# Altium footprint library ILI9341.PcbLib: 1 footprints
Each footprint in its own frame and in the unit in brackets; x right, y up, seen from the top. Pads: shape width x height; smd on the part's side, far side on the other; paste and mask are expansions set on the pad; w line width, h text height; cw(c..) or ccw(c..) is an arc to the next point about the centre after c.
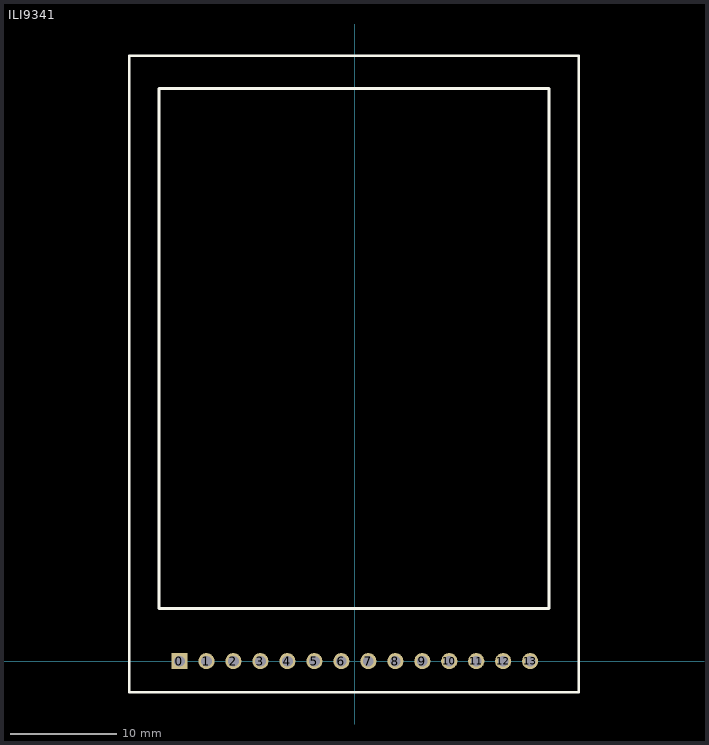
[diagram p0: the footprint, top view; thin cyan lines are the x and y axes]

## ILI9341 [mil]
pads (14):
  rect 60x60 hole 40: 0(-650,0)
  round 60 hole 40: 1(-550,0) 2(-450,0) 3(-350,0) 4(-250,0) 5(-150,0) 6(-50,0) 7(50,0) 8(150,0) 9(250,0) 10(350,0) 11(450,0) 12(550,0) 13(650,0)
Top Overlay:
  lines w10: -836.14,-115 830,-115 830,2243.66 -836.14,2243.66 -836.14,-115 ; -725.67,195 720,195 720,2122.56 -725.67,2122.56 -725.67,195